# Altium schematic symbol library HyTechDevices.SCHLIB: 241 symbols (part 4 of 4)
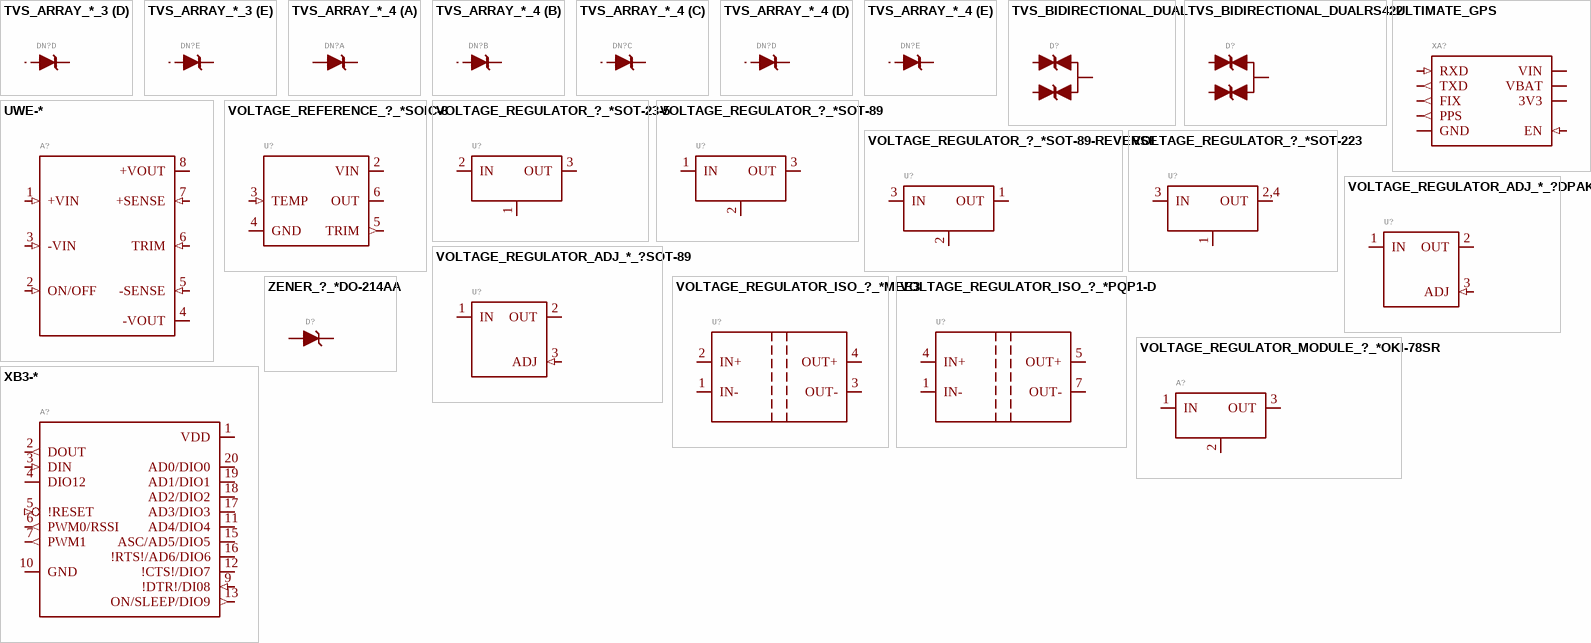
[diagram p10: symbols TVS_ARRAY_*_3 to ZENER_?_*DO-214AA]

## ULTIMATE_GPS
designator XA?, comment Adafruit Ultimate GPS Breakout - 66 channel w/10 Hz updates - Version 3  Datasheet Requires ordering of:  2: 5mm height, 3mm screw standoffs  1: Ultimate GPS  1: Antenna  (value not drawn)
MANUFACTURER: Samtec Inc.; MPN: DW-09-07-G-S-200; GateName_1: G$1; SymbolName_1: ULTIMATE_GPS; DKPN: DW-09-07-G-S-200-ND; MOPN: 200-DW0907GS200; LibraryName: HyTechDevices; DeviceSetName: ULTIMATE_GPS; Package: ULTIMATE_GPS
footprint ULTIMATE_GPS
pins: 3.3V 3V3 (power), EN (in), FIX (out), GND (power), PPS (out), RX RXD (in), TX TXD (out), VBAT (power), VIN (power)

## UWE-*
designator A?, comment UWE-Q12 Series Wide Input, Isolated Eighth-Brick DCDC Converters  Datasheet  (value not drawn)
MANUFACTURER: Murata Power Solutions Inc.; MPN: UWE-12/10-Q12PB-C; GateName_1: G$1; SymbolName_1: UWE-*; DKPN: 811-3061-ND; MOPN: 580-UWE-12/10Q12PBC; LibraryName: HyTechDevices; DeviceSetName: UWE-*; Package: UWE-*
footprint UWE-*
pins: 1 +VIN (in), 2 ON/OFF (in), 3 -VIN (in), 4 -VOUT (power), 5 -SENSE (in), 6 TRIM (in), 7 +SENSE (in), 8 +VOUT (power)

## VOLTAGE_REFERENCE_?_*SOIC-8
designator U?, comment MAX6173â€“MAX6177  <> Datasheet  (value not drawn)
MANUFACTURER: Maxim Integrated; MPN: MAX6176AASA+; GateName_1: G$1; SymbolName_1: MAX6176*; DeviceName: SOIC-8; DeviceSetName: VOLTAGE_REFERENCE_?_*; DKPN: MAX6176AASA+-ND; MOPN: 700-MAX6176AASA; LibraryName: HyTechDevices; Package: SOIC-08(NARROW,0.15")
footprint SOIC-08(NARROW,0.15")
pins: 2 VIN (power), 3 TEMP (in), 4 GND (power), 5 TRIM (out), 6 OUT (power)

## VOLTAGE_REGULATOR_?_*SOT-23-5
designator U?, comment Voltage Regulators  LDL1117S50R Datasheet  NCP785AH120T1G  LMS8117A Datasheet  ST732M50R Datasheet  LM2937IMPX-10/NOPB Datasheet  L78L15ACUTR Datasheet  (value not drawn)
MANUFACTURER: STMicroelectronics; GateName_1: G$1; SymbolName_1: VOLTAGE_REGULATOR; DeviceName: SOT-23-5; DeviceSetName: VOLTAGE_REGULATOR_?_*; DKPN: 497-ST732M50RTR-ND; MOPN: 511-ST732M50R; LibraryName: HyTechDevices; Package: SOT-23-5; MPN: ST732M50R
footprint SOT-23-5
pins: 1 GND (power), 2 IN (power), 3 OUT (power)

## VOLTAGE_REGULATOR_?_*SOT-89
designator U?, comment Voltage Regulators  LDL1117S50R Datasheet  NCP785AH120T1G  LMS8117A Datasheet  ST732M50R Datasheet  LM2937IMPX-10/NOPB Datasheet  L78L15ACUTR Datasheet  (value not drawn)
MANUFACTURER: ON Semiconductor; MPN: NCP785AH150T1G; GateName_1: G$1; SymbolName_1: VOLTAGE_REGULATOR; DeviceName: SOT-89; DeviceSetName: VOLTAGE_REGULATOR_?_*; DKPN: NCP785AH120T1GOSCT-ND; MOPN: 863-NCP785AH120T1G; DKPN: NCP785AH150T1GOSTR-ND; MOPN: 863-NCP785AH150T1G; LibraryName: HyTechDevices; Package: SOT-89; MPN: NCP785AH120T1G
footprint SOT-89
pins: 1 IN (power), 2 GND (power), 3 OUT (power)

## VOLTAGE_REGULATOR_?_*SOT-89-REVERSE
designator U?, comment Voltage Regulators  LDL1117S50R Datasheet  NCP785AH120T1G  LMS8117A Datasheet  ST732M50R Datasheet  LM2937IMPX-10/NOPB Datasheet  L78L15ACUTR Datasheet  (value not drawn)
MANUFACTURER: STMicroelectronics; GateName_1: G$1; SymbolName_1: VOLTAGE_REGULATOR; DeviceName: SOT-89-REVERSE; DeviceSetName: VOLTAGE_REGULATOR_?_*; DKPN: 497-7279-2-ND; MOPN: 511-L78L15ACU-TR; LibraryName: HyTechDevices; Package: SOT-89; MPN: L78L15ACUTR
footprint SOT-89
pins: 1 OUT (power), 2 GND (power), 3 IN (power)

## VOLTAGE_REGULATOR_?_*SOT-223
designator U?, comment Voltage Regulators  LDL1117S50R Datasheet  NCP785AH120T1G  LMS8117A Datasheet  ST732M50R Datasheet  LM2937IMPX-10/NOPB Datasheet  L78L15ACUTR Datasheet  (value not drawn)
MANUFACTURER: Texas Instruments; MPN: LMS8117AMP-3.3/NOPB; MANUFACTURER: STMicroelectronics; GateName_1: G$1; SymbolName_1: VOLTAGE_REGULATOR; DeviceName: SOT-223; DeviceSetName: VOLTAGE_REGULATOR_?_*; DKPN: LM2937IMPX-10/NOPBDKR-ND; MOPN: 926-LM2937IMP-10NOPB; DKPN: LMS8117AMP-3.3/NOPBCT-ND; MOPN: 926-LMS8117AMP33NOPB; DKPN: 497-17240-1-ND; MOPN: 511-LDL1117S50R; LibraryName: HyTechDevices; Package: SOT-223; MPN: LM2937IMPX-10/NOPB; MPN: LDL1117S50R
footprint SOT-223
pins: 1 GND (power), 2,4 OUT (power), 3 IN (power)

## VOLTAGE_REGULATOR_ADJ_*_?DPAK
designator U?, comment Adjustable voltage regulators. LR8 Datasheet  (value not drawn)
MANUFACTURER: Microchip Technology; MPN: LR8K4-G; GateName_1: G$1; SymbolName_1: VOLTAGE_REGULATOR_ADJ; DeviceName: DPAK; DeviceSetName: VOLTAGE_REGULATOR_ADJ_*_?; DKPN: LR8K4-GTR-ND; MOPN: 689-LR8K4-G; LibraryName: HyTechDevices; Package: DPAK(2-7K1S)
footprint DPAK(2-7K1S)
pins: 1 IN (power), 2 OUT (power), 3 ADJ (in)

## VOLTAGE_REGULATOR_ADJ_*_?SOT-89
designator U?, comment Adjustable voltage regulators. LR8 Datasheet  (value not drawn)
MANUFACTURER: Microchip Technology; MPN: LR8N8-G; GateName_1: G$1; SymbolName_1: VOLTAGE_REGULATOR_ADJ; DeviceName: SOT-89; DeviceSetName: VOLTAGE_REGULATOR_ADJ_*_?; DKPN: LR8N8-GTR-ND; MOPN: 689-LR8N8-G; LibraryName: HyTechDevices; Package: SOT-89
footprint SOT-89
pins: 1 IN (power), 2 OUT (power), 3 ADJ (in)

## VOLTAGE_REGULATOR_ISO_?_*MEE3
designator U?, comment Isolated voltage regulator  MEE3XXXXSC Datasheet PQP1-D Datasheet  (value not drawn)
MANUFACTURER: Murata Power Solutions; MPN: MEE3S0505SC; GateName_1: G$1; SymbolName_1: VOLTAGE_REGULATOR_ISO; DeviceName: MEE3; DeviceSetName: VOLTAGE_REGULATOR_ISO_?_*; DKPN: 811-2360-5-ND; MOPN: 580-MEE3S0505SC; LibraryName: HyTechDevices; Package: MEE3XXXXSC
footprint MEE3XXXXSC
pins: 1 IN- (power), 2 IN+ (power), 3 OUT- (power), 4 OUT+ (power)

## VOLTAGE_REGULATOR_ISO_?_*PQP1-D
designator U?, comment Isolated voltage regulator  MEE3XXXXSC Datasheet PQP1-D Datasheet  (value not drawn)
MANUFACTURER: CUI Inc.; MPN: PQP1-D24-S12-D; GateName_1: G$1; SymbolName_1: VOLTAGE_REGULATOR_ISO; DeviceSetName: VOLTAGE_REGULATOR_ISO_?_*; DKPN: 102-PQP1-D24-S12-D-ND; MOPN: 490-PQP1-D24-S12-D; DeviceName: PQP1-D; LibraryName: HyTechDevices; Package: PQP1-D
footprint PQP1-D
pins: 1 IN- (power), 4 IN+ (power), 5 OUT+ (power), 7 OUT- (power)

## VOLTAGE_REGULATOR_MODULE_?_*OKI-78SR
designator A?, comment Voltage Regulator Modules  OKI-78SR Datasheet  (value not drawn)
MANUFACTURER: Murata Power Solutions Inc.; MPN: OKI-78SR-12/1.0-W36-C; MPN: OKI-78SR-5/1.5-W36-C; GateName_1: G$1; SymbolName_1: VOLTAGE_REGULATOR; DeviceSetName: VOLTAGE_REGULATOR_MODULE_?_*; DKPN: 811-3293-ND; MOPN: 580-OKI78SR12/1W36C; DKPN: 811-2196-5-ND; MOPN: 580-OKI78SR5/1.5W36C; DeviceName: OKI-78SR; LibraryName: HyTechDevices; Package: OKI-78SR
footprint OKI-78SR
pins: 1 IN (power), 2 GND (power), 3 OUT (power)

## XB3-*
designator A?, comment XB3 Bluetooth/Cellular Modem  Datasheet  (value not drawn)
MANUFACTURER: Digi; MPN: XB3-C-A2-UT-001; GateName_1: G$1; SymbolName_1: XBEE; DeviceSetName: XB3-*; DKPN: 602-2169-ND; MOPN: 888-XB3-C-A2-UT-001; LibraryName: HyTechDevices; Package: XBEE
footprint XBEE
pins: 1 VDD (power), 2 DOUT (out), 3 DIN (in), 4 DIO12 (io), 5 !RESET (in), 6 PWM0/RSSI (out), 7 PWM1 (out), 9 !DTR!/DI08 (in), 10 GND (power), 11 AD4/DIO4 (io), 12 !CTS!/DIO7 (io), 13 ON/SLEEP/DIO9 (out), 15 ASC/AD5/DIO5 (io), 16 !RTS!/AD6/DIO6 (io), 17 AD3/DIO3 (io), 18 AD2/DIO2 (io), 19 AD1/DIO1 (io), 20 AD0/DIO0 (io)

## ZENER_?_*DO-214AA
designator D?, comment Zener Diode   1SMB5949B-13  (value not drawn)
MANUFACTURER: Diodes Incorporated; GateName_1: G$1; SymbolName_1: DIODE_ZENER; DeviceName: DO-214AA; DeviceSetName: ZENER_?_*; CURRENT: 0.03A; DKPN: 1SMB5949B-13DICT-ND; MOPN: 621-1SMB5949B-13; VOLTAGE: 100V; LibraryName: HyTechDevices; Package: DO-214AA; MPN: 1SMB5949B-13
footprint DO-214AA
pins: 1 A, 2 C